# EAGLE library part PIC18F4423 (library NBitWonder)
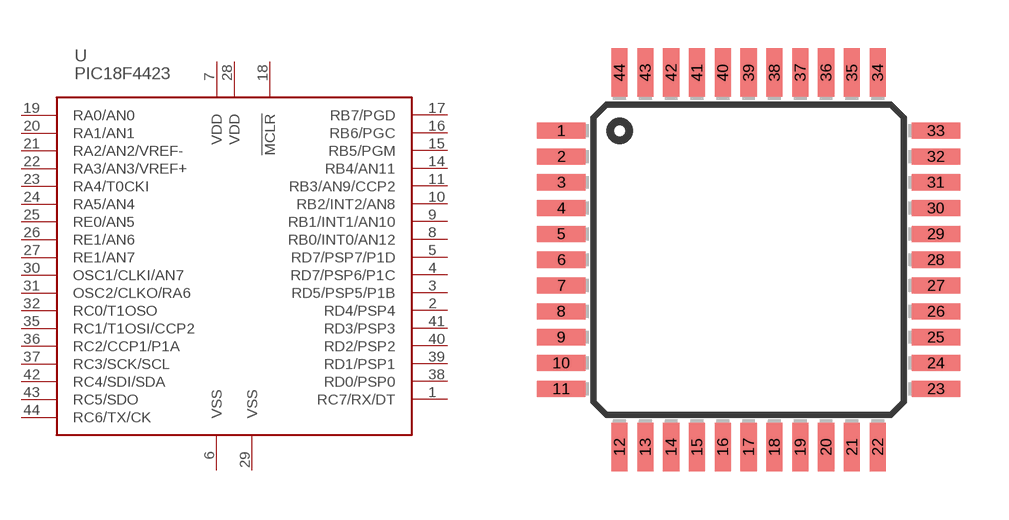
[diagram p14: symbol with the pads of TQFP44-08; footprint TQFP44-08]

Designator prefix -

## PIC18F4423  [TQFP44-08]
1  RC7/RX/DT
2  RD4/PSP4
3  RD5/PSP5/P1B
4  RD7/PSP6/P1C
5  RD7/PSP7/P1D
6  VSS  pwr
7  VDD  pwr
8  RB0/INT0/AN12
9  RB1/INT1/AN10
10  RB2/INT2/AN8
11  RB3/AN9/CCP2
14  RB4/AN11
15  RB5/PGM
16  RB6/PGC
17  RB7/PGD
18  !MCLR  pwr
19  RA0/AN0
20  RA1/AN1
21  RA2/AN2/VREF-
22  RA3/AN3/VREF+
23  RA4/T0CKI
24  RA5/AN4
25  RE0/AN5
26  RE1/AN6
27  RE1/AN7
28  VDD  pwr
29  VSS  pwr
30  OSC1/CLKI/AN7
31  OSC2/CLKO/RA6
32  RC0/T1OSO
35  RC1/T1OSI/CCP2
36  RC2/CCP1/P1A
37  RC3/SCK/SCL
38  RD0/PSP0
39  RD1/PSP1
40  RD2/PSP2
41  RD3/PSP3
42  RC4/SDI/SDA
43  RC5/SDO
44  RC6/TX/CK

## Footprint TQFP44-08 (pad centres in mm)
Thin Quad Flat Pack package type TQ
smd 1.5 x 0.5: 1 -5.8,4; 2 -5.8,3.2; 3 -5.8,2.4; 4 -5.8,1.6; 5 -5.8,0.8; 6 -5.8,0; 7 -5.8,-0.8; 8 -5.8,-1.6; 9 -5.8,-2.4; 10 -5.8,-3.2; 11 -5.8,-4; 23 5.8,-4; 24 5.8,-3.2; 25 5.8,-2.4; 26 5.8,-1.6; 27 5.8,-0.8; 28 5.8,0; 29 5.8,0.8; 30 5.8,1.6; 31 5.8,2.4; 32 5.8,3.2; 33 5.8,4
smd 0.5 x 1.5: 12 -4,-5.8; 13 -3.2,-5.8; 14 -2.4,-5.8; 15 -1.6,-5.8; 16 -0.8,-5.8; 17 0,-5.8; 18 0.8,-5.8; 19 1.6,-5.8; 20 2.4,-5.8; 21 3.2,-5.8; 22 4,-5.8; 34 4,5.8; 35 3.2,5.8; 36 2.4,5.8; 37 1.6,5.8; 38 0.8,5.8; 39 0,5.8; 40 -0.8,5.8; 41 -1.6,5.8; 42 -2.4,5.8; 43 -3.2,5.8; 44 -4,5.8